# Altium schematic symbol library B39921B3588U410.Schlib: 1 symbol
Pins are listed as number, name and electrical type; pins without a type are passive.

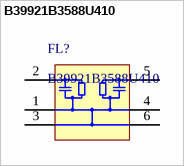
[diagram p0: symbol B39921B3588U410]

## B39921B3588U410
designator FL?
915MHz Frequency Remote Control RF SAW Filter (Sound Acoustic Wave) 2.9dB 26MHz Bandwidth 6-SMD, No Lead
pins: 1, 2, 3, 4, 5, 6